# EAGLE library part 10132798-052100LF (library milliLearn-ice40)
50 pin mezzanine connector from the Amphenol "Bergstak" line. This line features a series of interchangable sockets and plugs which can provide different mating heights between 4 and 6 millimeters. The footprint for the sockets and plugs are almost identical, but not quite. I imagine that they can be safely substituted, and in this case, I've made identical copies.
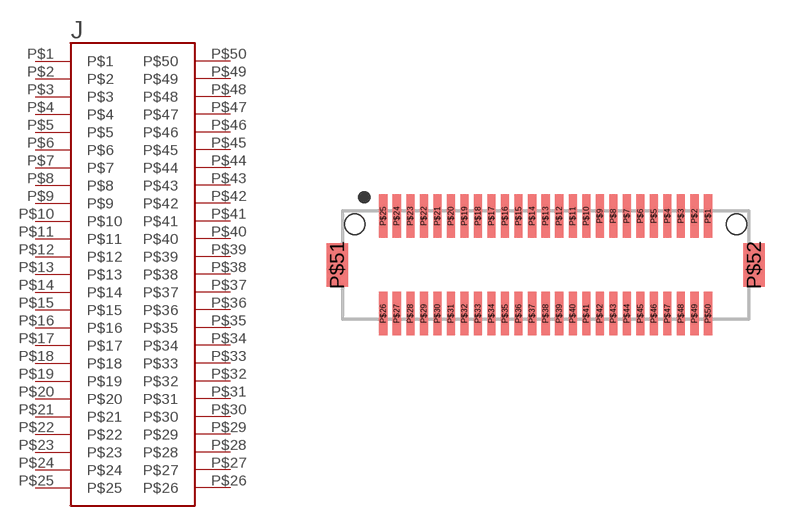
[diagram p1: symbol with the pads of 10132798-052100LF; footprint 10132798-052100LF]

Designator prefix J

## 10132798-052100LF  [10132798-052100LF]
P$1  P$1
P$2  P$2
P$3  P$3
P$4  P$4
P$5  P$5
P$6  P$6
P$7  P$7
P$8  P$8
P$9  P$9
P$10  P$10
P$11  P$11
P$12  P$12
P$13  P$13
P$14  P$14
P$15  P$15
P$16  P$16
P$17  P$17
P$18  P$18
P$19  P$19
P$20  P$20
P$21  P$21
P$22  P$22
P$23  P$23
P$24  P$24
P$25  P$25
P$26  P$26
P$27  P$27
P$28  P$28
P$29  P$29
P$30  P$30
P$31  P$31
P$32  P$32
P$33  P$33
P$34  P$34
P$35  P$35
P$36  P$36
P$37  P$37
P$38  P$38
P$39  P$39
P$40  P$40
P$41  P$41
P$42  P$42
P$43  P$43
P$44  P$44
P$45  P$45
P$46  P$46
P$47  P$47
P$48  P$48
P$49  P$49
P$50  P$50

## Footprint 10132798-052100LF (pad centres in mm)
smd 0.3 x 1.6: P$1 6,1.8; P$2 5.5,1.8; P$3 5,1.8; P$4 4.5,1.8; P$5 4,1.8; P$6 3.5,1.8; P$7 3,1.8; P$8 2.5,1.8; P$9 2,1.8; P$10 1.5,1.8; P$11 1,1.8; P$12 0.5,1.8; P$13 0,1.8; P$14 -0.5,1.8; P$15 -1,1.8; P$16 -1.5,1.8; P$17 -2,1.8; P$18 -2.5,1.8; P$19 -3,1.8; P$20 -3.5,1.8; P$21 -4,1.8; P$22 -4.5,1.8; P$23 -5,1.8; P$24 -5.5,1.8; P$25 -6,1.8; P$26 -6,-1.8; P$27 -5.5,-1.8; P$28 -5,-1.8; P$29 -4.5,-1.8; P$30 -4,-1.8; P$31 -3.5,-1.8; P$32 -3,-1.8; P$33 -2.5,-1.8; P$34 -2,-1.8; P$35 -1.5,-1.8; P$36 -1,-1.8; P$37 -0.5,-1.8; P$38 0,-1.8; P$39 0.5,-1.8; P$40 1,-1.8; P$41 1.5,-1.8; P$42 2,-1.8; P$43 2.5,-1.8; P$44 3,-1.8; P$45 3.5,-1.8; P$46 4,-1.8; P$47 4.5,-1.8; P$48 5,-1.8; P$49 5.5,-1.8; P$50 6,-1.8
smd 0.8 x 1.6: P$51 -7.7,0; P$52 7.7,0
hole 0.75 at -7.05,1.5
hole 0.75 at 7.05,1.5